# EAGLE library part RASPBERRY_PI_ZERO (library cabinet_temp_regulator)
RASPBERRY PI ZERO <https://www.raspberrypi.org/products/raspberry-pi-zero/>
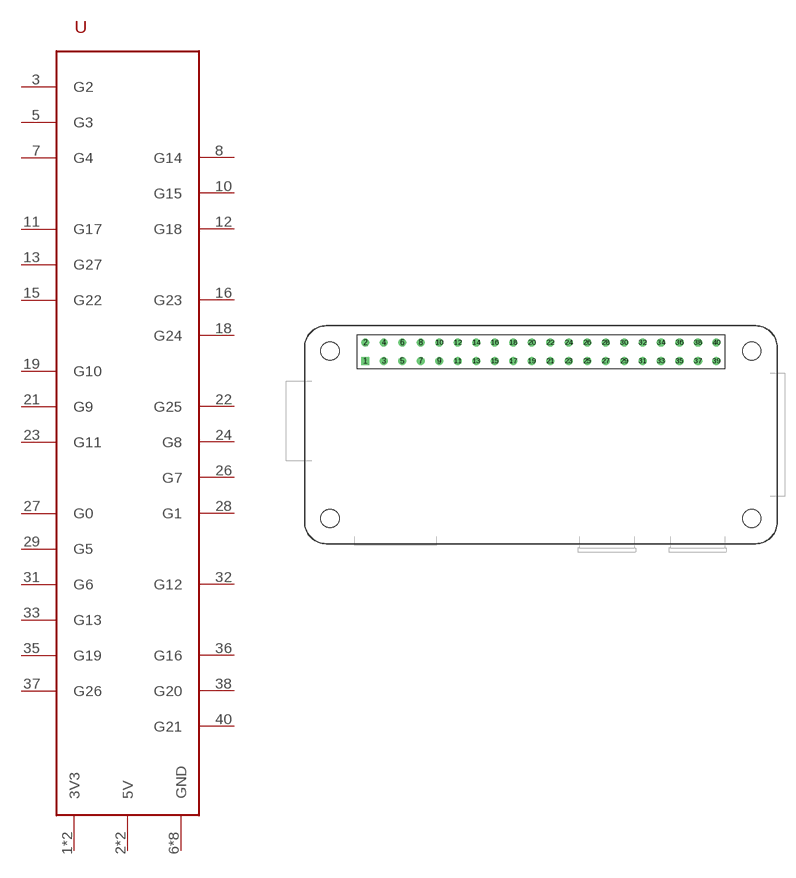
[diagram p1: symbol with the pads of RASPBERRY_PI_ZERO; footprint RASPBERRY_PI_ZERO]

Designator prefix -

## RASPBERRY_PI_ZERO  [RASPBERRY_PI_ZERO]
1  3V3  pwr
2  5V  pwr
3  G2
4  5V  pwr
5  G3
6  GND  pwr
7  G4
8  G14
9  GND  pwr
10  G15
11  G17
12  G18
13  G27
14  GND  pwr
15  G22
16  G23
17  3V3  pwr
18  G24
19  G10
20  GND  pwr
21  G9
22  G25
23  G11
24  G8
25  GND  pwr
26  G7
27  G0
28  G1
29  G5
30  GND  pwr
31  G6
32  G12
33  G13
34  GND  pwr
35  G19
36  G16
37  G26
38  G20
39  GND  pwr
40  G21

## Footprint RASPBERRY_PI_ZERO (pad centres in mm)
drill 0.6 square: 1 -24.13,10.16
drill 0.6: 2 -24.13,12.7; 3 -21.59,10.16; 4 -21.59,12.7; 5 -19.05,10.16; 6 -19.05,12.7; 7 -16.51,10.16; 8 -16.51,12.7; 9 -13.97,10.16; 10 -13.97,12.7; 11 -11.43,10.16; 12 -11.43,12.7; 13 -8.89,10.16; 14 -8.89,12.7; 15 -6.35,10.16; 16 -6.35,12.7; 17 -3.81,10.16; 18 -3.81,12.7; 19 -1.27,10.16; 20 -1.27,12.7; 21 1.27,10.16; 22 1.27,12.7; 23 3.81,10.16; 24 3.81,12.7; 25 6.35,10.16; 26 6.35,12.7; 27 8.89,10.16; 28 8.89,12.7; 29 11.43,10.16; 30 11.43,12.7; 31 13.97,10.16; 32 13.97,12.7; 33 16.51,10.16; 34 16.51,12.7; 35 19.05,10.16; 36 19.05,12.7; 37 21.59,10.16; 38 21.59,12.7; 39 24.13,10.16; 40 24.13,12.7
hole 2.5 at -29,11.5
hole 2.5 at 29,11.5
hole 2.5 at 29,-11.5
hole 2.5 at -29,-11.5